# Altium footprint library MDBT42Q - Copy (3).PcbLib: 14 footprints
Each footprint in its own frame and in the unit in brackets; x right, y up, seen from the top. Pads: shape width x height; smd on the part's side, far side on the other; paste and mask are expansions set on the pad; w line width, h text height; cw(c..) or ccw(c..) is an arc to the next point about the centre after c.
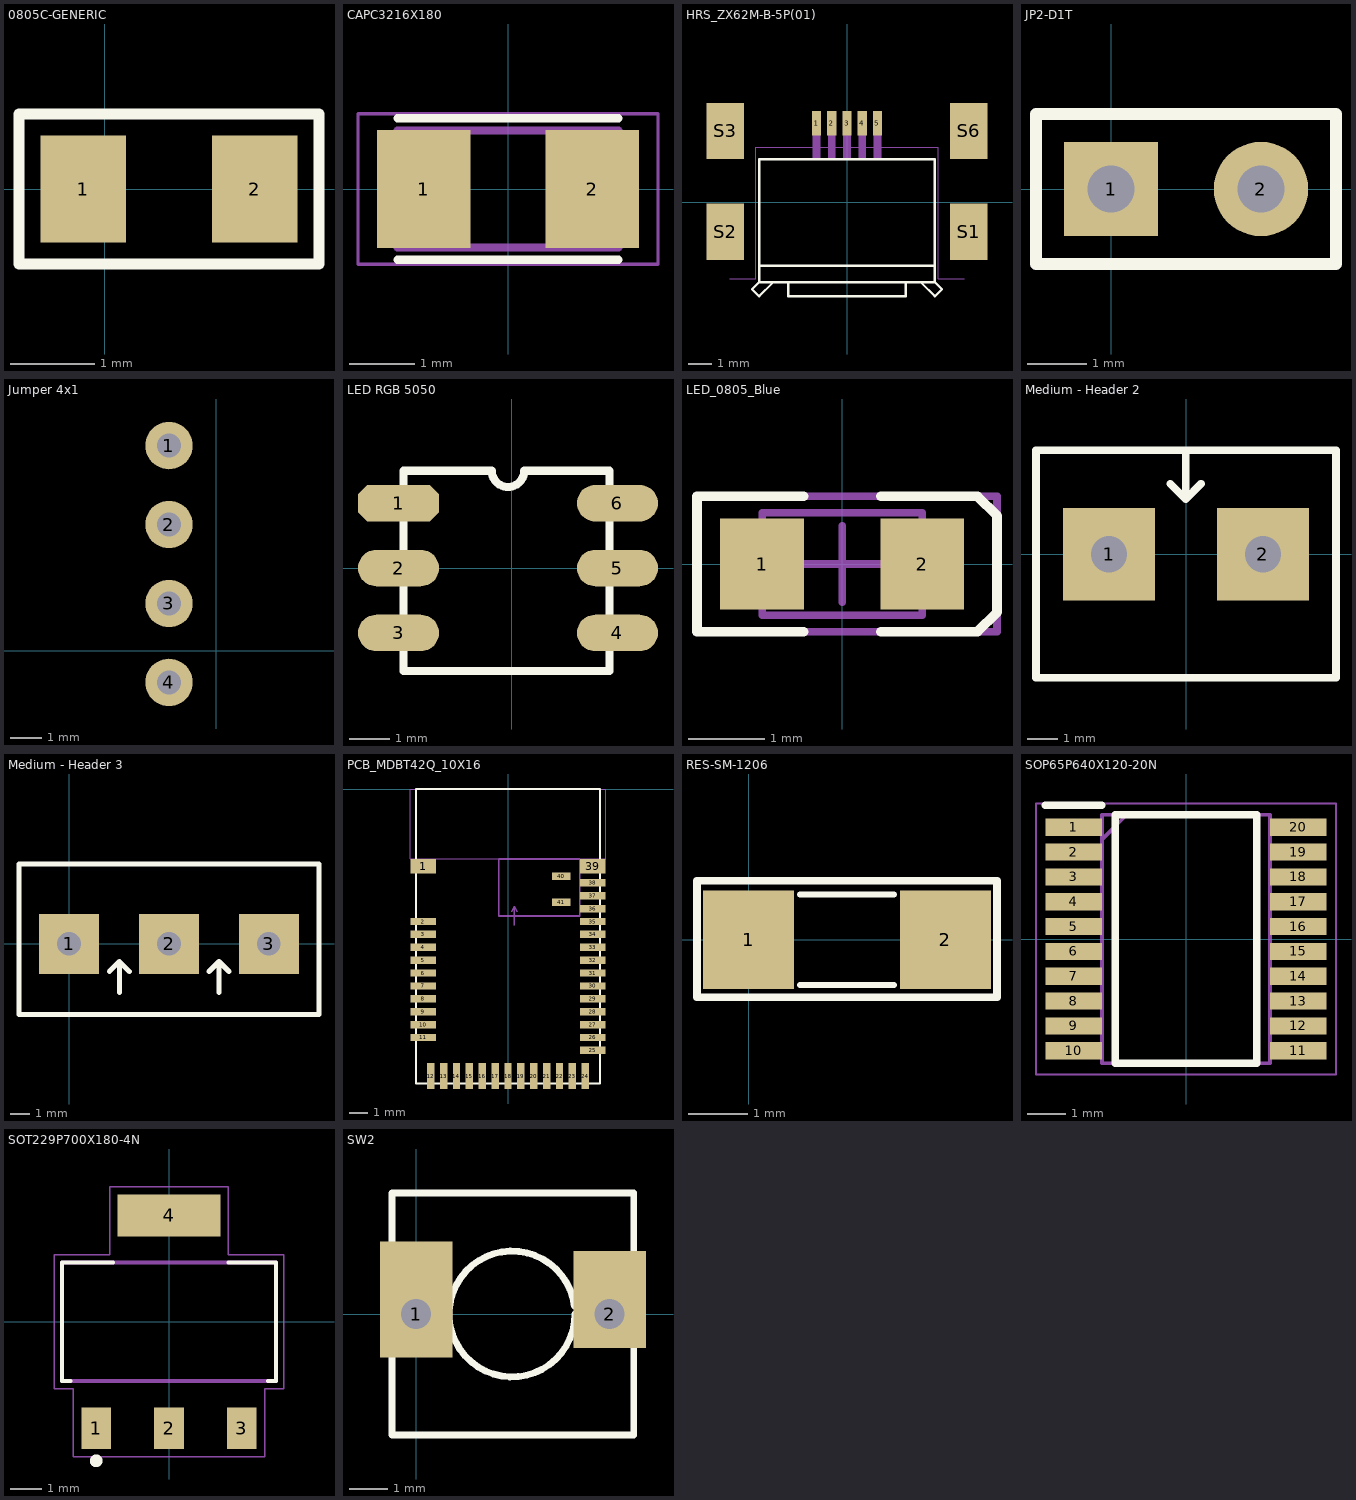
[diagram p0: the footprints below, top view; thin cyan lines are the x and y axes]

## 0805C-GENERIC [mil] "CAPACITOR 0805"
pads (2):
  rect 40x50 smd: 1(-10,0) 2(70,0)
Top Overlay:
  lines w5: -40,-35 100,-35 100,35 -40,35 -40,-35
3D body: height 23, standoff 22, extent 45,2.5 52.5,17.5
3D body: height 23, standoff 22, extent 35,2.5 42.5,17.5
3D body: height 23, standoff 22, extent 10.5,-15 18,0
3D body: height 23, standoff 22, extent -5,2.5 2.5,17.5
3D body: height 23, standoff 22, extent 5,2.5 12.5,17.5
3D body: height 23, standoff 22, extent 15,2.5 22.5,17.5
3D body: height 23, standoff 22, extent 25,2.5 32.5,17.5
3D body: height 23, standoff 22, extent 20.5,-15 28,0
3D body: height 23, standoff 22, extent 0.5,-15 8,0
3D body: height 23, standoff 22, extent 30.5,-15 38,0
3D body: height 23, standoff 22, extent 40.5,-15 48,0
3D body: height 25, standoff 0, extent -10,-24 69,24
3D body: height 26, standoff 0, extent -11,-25 5,25
3D body: height 26, standoff 0, extent 54,-25 70,25

## CAPC3216X180 [mm]
height 2.54
pads (2):
  rect 1.44x1.82 smd: 1(-1.295,0) 2(1.295,0)
Top Overlay:
  lines w0.127: -1.7,-1.09 1.7,-1.09 ; -1.7,1.09 1.7,1.09
Mechanical 1:
  lines w0.127: -1.7,-0.9 -1.7,0.9 1.7,0.9 1.7,-0.9 -1.7,-0.9
Mechanical 4:
  lines w0.05: -2.31,-1.16 -2.31,1.16 2.31,1.16 2.31,-1.16 -2.31,-1.16

## HRS_ZX62M-B-5P(01) [mm]
height 2.54
pads (11):
  rect 0.4x1.05 smd: 1(-1.3,3.355) 2(-0.65,3.355) 3(0,3.355) 4(0.65,3.355) 5(1.3,3.355)
  rect 1.6x2.4 smd: S1(5.2,-1.27) S2(-5.2,-1.27) S3(-5.2,3.03) S6(5.2,3.03)
  rect 0x0 smd: S4(-2.35,5.13) S5(2.35,5.13)
Top Overlay:
  lines w0.1: -3.75,-2.72 3.75,-2.72 ; -3.75,-3.42 -4.05,-3.72 -3.75,-4.02 -3.15,-3.42 ; -3.75,-3.42 -3.15,-3.42 ; -3.75,-3.42 -3.75,1.83 3.75,1.83 3.75,-3.42 ; -3.15,-3.42 -2.5,-3.42 ; -2.5,-3.42 -2.5,-4.02 2.5,-4.02 2.5,-3.42 ; -2.5,-3.42 2.5,-3.42 ; 2.5,-3.42 3.15,-3.42 ; 3.15,-3.42 3.75,-4.02 4.05,-3.72 3.75,-3.42 ; 3.15,-3.42 3.75,-3.42
Mechanical 1:
  region: 1.142,1.832 1.142,3.682 1.458,3.682 1.458,1.832
  region: 0.493,1.833 0.493,3.684 0.806,3.684 0.806,1.833
  region: -0.159,1.831 -0.159,3.683 0.157,3.683 0.157,1.831
  region: -0.808,1.832 -0.808,3.686 -0.496,3.686 -0.496,1.832
  region: -1.46,1.83 -1.46,3.685 -1.145,3.685 -1.145,1.83
  lines w0: -5,-3.27 -3.9,-3.27 -3.9,2.33 3.9,2.33 3.9,-3.27 5,-3.27

## JP2-D1T [mm] "2 pins, 1 row, straight, gold plating"
height 8.54
pads (2):
  rect 1.6x1.6 hole 0.8: 1(0,0)
  round 1.6 hole 0.8: 2(2.54,0)
Top Overlay:
  lines w0.2: -1.27,-1.27 -1.27,1.27 3.81,1.27 3.81,-1.27 -1.27,-1.27
3D body "61300211121.stp": height 8.54, standoff -3, extent -1.27,-1.27 3.81,1.27

## Jumper 4x1 [mil]
height 100
pads (4):
  round 60 hole 30: 1(-60,260) 2(-60,160) 3(-60,60) 4(-60,-40)
Top Paste:
  lines w10: -100,-80 -100,300 -20,300 -20,-80 -100,-80

## LED RGB 5050 [mm]
height 2.54
pads (6):
  oct 2x0.9 smd: 1(-2.794,1.6)
  oval 2x0.9 smd: 2(-2.794,0) 3(-2.794,-1.6) 4(2.606,-1.6) 5(2.606,0) 6(2.606,1.6)
Top Overlay:
  lines w0.2: -2.667,-2.54 -2.667,2.4 -0.494,2.4 ccw(c-0.094,2.4) 0.306,2.4 2.413,2.4 2.413,-2.54 -2.667,-2.54
3D body "User Library-smd_led_5050.step": height 1.6, standoff 0, extent -2.777,-2.54 2.523,2.46

## LED_0805_Blue [mm] "Chip LED, 2-Leads, Body 2.0x1.3mm, IPC Medium Density"
height 0.8
pads (2):
  rect 1.1x1.2 smd: 1(-1.05,0) 2(1.05,0)
Top Overlay:
  lines w0.127: -0.508,-0.889 -1.905,-0.889 -1.905,0.889 -0.508,0.889 ; 0.508,-0.889 1.778,-0.889 2.032,-0.635 2.032,0.635 1.778,0.889 0.508,0.889
Mechanical 13:
  lines w0.1: -1.05,-0.675 -1.05,0.675 1.05,0.675 1.05,-0.675 -1.05,-0.675
Mechanical 15:
  lines w0.1: -0.5,0 0.5,0 ; 0,-0.5 0,0.5 ; -1.905,-0.889 -1.905,0.889 2.032,0.889 2.032,-0.889 -1.905,-0.889
3D body "WL-SMCW_0805_LED.stp": height 0.68, standoff -0.02, extent -1,-0.625 1,0.625

## Medium - Header 2 [mil]
height 100
pads (2):
  rect 120x120 hole 47.24: 1(-100,0) 2(100,0)
Top Overlay:
  lines w10: -20.5,91.5 -0.5,71.5 ; -0.5,133 -0.5,71.5 ; 19.5,91.5 -0.5,71.5 ; -195,-160.5 -195,135 195,135 195,-160.5 -195,-160.5
3D body "SW3DPS-HDR1x2-MED-GREEN.STEP": height 393.7, standoff -157.48, extent -196.85,-160.28 196.85,135

## Medium - Header 3 [mil]
height 100
pads (3):
  rect 120x120 hole 47.24: 1(0,0) 2(200,0) 3(399.5,0)
Top Overlay:
  lines w10: 80.5,-55.5 100.5,-35.5 ; 100.5,-97 100.5,-35.5 ; 120.5,-55.5 100.5,-35.5 ; 280,-55.5 300,-35.5 ; 300,-97 300,-35.5 ; 320,-55.5 300,-35.5 ; -100,-141 500,-141 500,160 -100,160 -100,-141
3D body "SW3DPS-HDR1x3-MED-GREEN.STEP": height 393.7, standoff -157.48, extent -95.28,-138 495.28,157.28

## PCB_MDBT42Q_10X16 [mm]
pads (41):
  rect 1.4x0.8 smd: 1(-4.6,-4.2) 39(4.6,-4.2)
  rect 1.4x0.4 smd: 2(-4.6,-7.2) 3(-4.6,-7.9) 4(-4.6,-8.6) 5(-4.6,-9.3) 6(-4.6,-10) 7(-4.6,-10.7) 8(-4.6,-11.4) 9(-4.6,-12.1) 10(-4.6,-12.8) 11(-4.6,-13.5) 25(4.6,-14.2) 26(4.6,-13.5) 27(4.6,-12.8) 28(4.6,-12.1) 29(4.6,-11.4) 30(4.6,-10.7) 31(4.6,-10) 32(4.6,-9.3) 33(4.6,-8.6) 34(4.6,-7.9) 35(4.6,-7.2) 36(4.6,-6.5) 37(4.6,-5.8) 38(4.6,-5.1)
  rect 0.4x1.4 smd: 12(-4.2,-15.6) 13(-3.5,-15.6) 14(-2.8,-15.6) 15(-2.1,-15.6) 16(-1.4,-15.6) 17(-0.7,-15.6) 18(0,-15.6) 19(0.7,-15.6) 20(1.4,-15.6) 21(2.1,-15.6) 22(2.8,-15.6) 23(3.5,-15.6) 24(4.2,-15.6)
  rect 1x0.4 smd: 40(2.9,-4.75) 41(2.9,-6.15)
Top Overlay:
  lines w0.1: -5,-16 -5,0 0,0 5,0 5,-16 -5,-16
Mechanical 2:
  lines w0.05: -5.3,-3.8 -0.5,-3.8 3.9,-3.8 5.3,-3.8 5.3,0 -5.3,0 -5.3,-3.8
  text "No ground pad" at -0.959,-12.448 h0.8
Mechanical 3:
  lines w0.08: 0.2,-6.675 0.35,-6.375 ; 0.35,-7.4 0.35,-6.375 ; 0.5,-6.675 0.35,-6.375
  lines w0.1: -0.5,-6.9 3.9,-6.9 3.9,-3.8 -0.5,-3.8 -0.5,-6.9
  text "No ground pad" at 2.079,-12.362 h0.8

## RES-SM-1206 [mil]
pads (2):
  rect 60x65 smd: 1(0,0) 2(130,0)
Top Overlay:
  lines w4: 34,-30 96,-30 ; 34,30 96,30
  lines w5: -34,-38 164,-38 164,39 -34,39 -34,-38
3D body "1206 SMD Resistor.step": height 40.05, standoff 0.6, extent 2.01,-31.49 128,31.5

## SOP65P640X120-20N [mm]
pads (20):
  rect 1.475x0.45 smd: 1(-2.938,2.925) 2(-2.938,2.275) 3(-2.938,1.625) 4(-2.938,0.975) 5(-2.938,0.325) 6(-2.938,-0.325) 7(-2.938,-0.975) 8(-2.938,-1.625) 9(-2.938,-2.275) 10(-2.938,-2.925) 11(2.938,-2.925) 12(2.938,-2.275) 13(2.938,-1.625) 14(2.938,-0.975) 15(2.938,-0.325) 16(2.938,0.325) 17(2.938,0.975) 18(2.938,1.625) 19(2.938,2.275) 20(2.938,2.925)
Top Overlay:
  lines w0.2: -3.675,3.5 -2.2,3.5 ; -1.85,-3.25 -1.85,3.25 1.85,3.25 1.85,-3.25 -1.85,-3.25
Mechanical 15:
  lines w0.1: -2.2,2.6 -1.55,3.25 ; -2.2,-3.25 -2.2,3.25 2.2,3.25 2.2,-3.25 -2.2,-3.25
Mechanical 16:
  lines w0.05: -3.925,-3.55 -3.925,3.55 3.925,3.55 3.925,-3.55 -3.925,-3.55
3D body: height 0, standoff 0, extent -2.25,-3.3 2.25,3.3

## SOT229P700X180-4N [mm]
height 2.54
pads (4):
  rect 0.93x1.31 smd: 1(-2.29,-3.345) 2(0,-3.345) 3(2.29,-3.345)
  rect 3.24x1.31 smd: 4(0,3.345)
Top Overlay:
  circle w0.2: c-2.29,-4.373 r0.1
  lines w0.127: -3.1,-1.86 -3.36,-1.86 -3.36,1.86 -1.76,1.86 ; 1.87,1.86 3.36,1.86 3.36,-1.86 3.11,-1.86
Mechanical 1:
  lines w0.127: -3.36,-1.86 -3.36,1.86 3.36,1.86 3.36,-1.86 -3.36,-1.86
Mechanical 4:
  lines w0.05: -3.61,-2.11 -3.61,2.11 -1.87,2.11 -1.87,4.25 1.87,4.25 1.87,2.11 3.61,2.11 3.61,-2.11 3.01,-2.11 3.01,-4.25 -3.01,-4.25 -3.01,-2.11 -3.61,-2.11

## SW2 [mil] "SW button 2pin, 250x 250 mil"
height 100
pads (2):
  rect 75x120 hole 31 copper offset 0,15: 1(0,0)
  rect 75x100 hole 31 copper offset 0,15: 2(200,0)
Top Overlay:
  lines w7: 163.64,8.26 ccw(c99.17,0) 164.17,0 ; -25,-125 -25,125 225,125 225,-125 -25,-125